# Altium schematic symbol library Schlib1.SchLib: 7 symbols
Pins are listed as number, name and electrical type; pins without a type are passive.

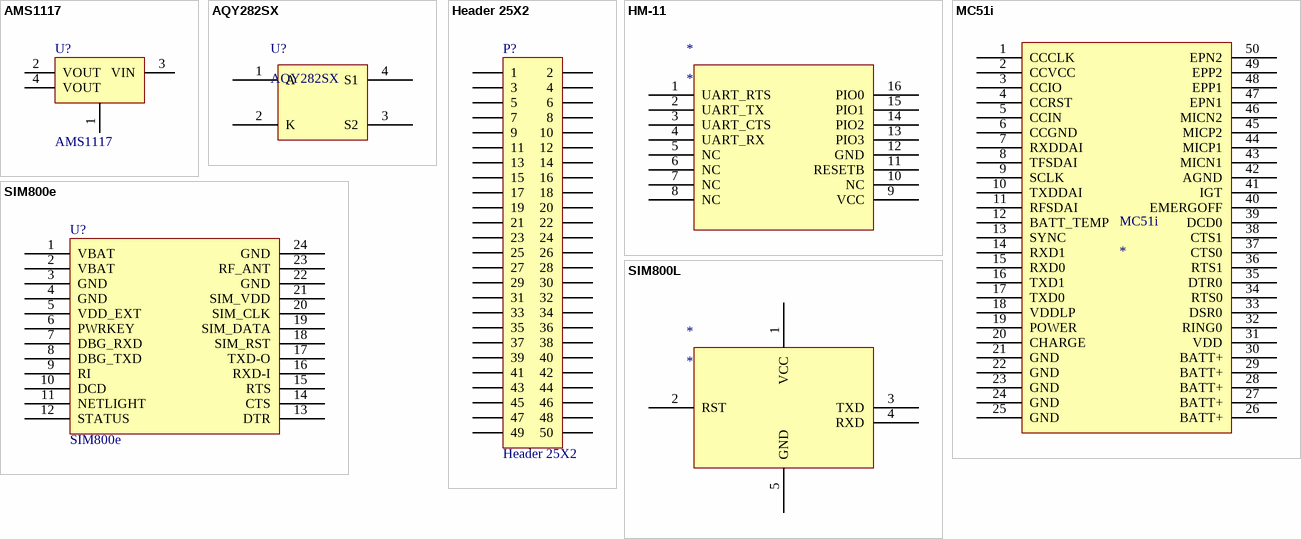
[diagram p0: symbols AMS1117 to SIM800L]

## AMS1117
designator U?
Adjustable Precision Shunt Regulator; Published: 15-Apr-2002; DatasheetVersion: Oct-2000; PackageVersion: Oct-1994; PackageReference: PK03; Publisher: Altium Limited; PackageDescription: SOT-89; Body 4.6 x 4.25 mm, inc. leads (LxW max); Code_JEDEC: TO-243-AA; Code_IPC: SOT 89; ComponentLink1Description: Manufacturer Link; ComponentLink1URL: http://www.ti.com/; ComponentLink2Description: Datasheet; ComponentLink2URL: http://www-s.ti.com/sc/ds/tl431a.pdf
footprint SOT223-4M (SOT223, 4-Leads, Body 6.5x3.5mm, Pitch 2.3mm, Lead Span 7mm, IPC Low Density)
pins: 1 GND (power), 2 VOUT (power), 3 VIN (power), 4 VOUT (power)

## AQY282SX
designator U?
RELAY OPTO 60VAC/DC 500MA 4-SOP; Digi-Key Part Number: 255-3393-2-ND
footprint SOP4
pins: 1 A (power), 2 K (power), 3 S2 (power), 4 S1 (power)

## Header 25X2
designator P?
Header, 25-Pin, Dual row; LatestRevisionDate: 17-Jul-2002; LatestRevisionNote: Re-released for DXP Platform.; Publisher: Altium Limited
footprint HDR2X25 (Connector; Header; 25x2 Position)
signal-integrity model Connector
pins: 1, 2, 3, 4, 5, 6, 7, 8, 9, 10, 11, 12, 13, 14, 15, 16, 17, 18, 19, 20, 21, 22, 23, 24, 25, 26, 27, 28, 29, 30, 31, 32, 33, 34, 35, 36, 37, 38, 39, 40, 41, 42, 43, 44, 45, 46, 47, 48, 49, 50

## HM-11
designator *
footprint HM-11
pins: 1 UART_RTS, 2 UART_TX, 3 UART_CTS, 4 UART_RX, 5 NC, 6 NC, 7 NC, 8 NC, 9 VCC, 10 NC, 11 RESETB, 12 GND, 13 PIO3, 14 PIO2, 15 PIO1, 16 PIO0

## MC51i
designator MC51i
footprint MC51i
pins: 1 CCCLK, 2 CCVCC, 3 CCIO, 4 CCRST, 5 CCIN, 6 CCGND, 7 RXDDAI, 8 TFSDAI, 9 SCLK, 10 TXDDAI, 11 RFSDAI, 12 BATT_TEMP, 13 SYNC, 14 RXD1, 15 RXD0, 16 TXD1, 17 TXD0, 18 VDDLP, 19 POWER, 20 CHARGE, 21 GND, 22 GND, 23 GND, 24 GND, 25 GND, 26 BATT+, 27 BATT+, 28 BATT+, 29 BATT+, 30 BATT+, 31 VDD, 32 RING0, 33 DSR0, 34 RTS0, 35 DTR0, 36 RTS1, 37 CTS0, 38 CTS1, 39 DCD0, 40 EMERGOFF, 41 IGT, 42 AGND, 43 MICN1, 44 MICP1, 45 MICP2, 46 MICN2, 47 EPN1, 48 EPP1, 49 EPP2, 50 EPN2

## SIM800e
designator U?
footprint SIM800e
pins: 1 VBAT, 2 VBAT, 3 GND, 4 GND, 5 VDD_EXT, 6 PWRKEY, 7 DBG_RXD, 8 DBG_TXD, 9 RI, 10 DCD, 11 NETLIGHT, 12 STATUS, 13 DTR, 14 CTS, 15 RTS, 16 RXD-I, 17 TXD-O, 18 SIM_RST, 19 SIM_DATA, 20 SIM_CLK, 21 SIM_VDD, 22 GND, 23 RF_ANT, 24 GND

## SIM800L
designator *
pins: 1 VCC (power), 2 RST (power), 3 TXD (power), 4 RXD (power), 5 GND (power)